# Altium footprint library SC_SOIC28W.PcbLib: 1 footprints
Each footprint in its own frame and in the unit in brackets; x right, y up, seen from the top. Pads: shape width x height; smd on the part's side, far side on the other; paste and mask are expansions set on the pad; w line width, h text height; cw(c..) or ccw(c..) is an arc to the next point about the centre after c.
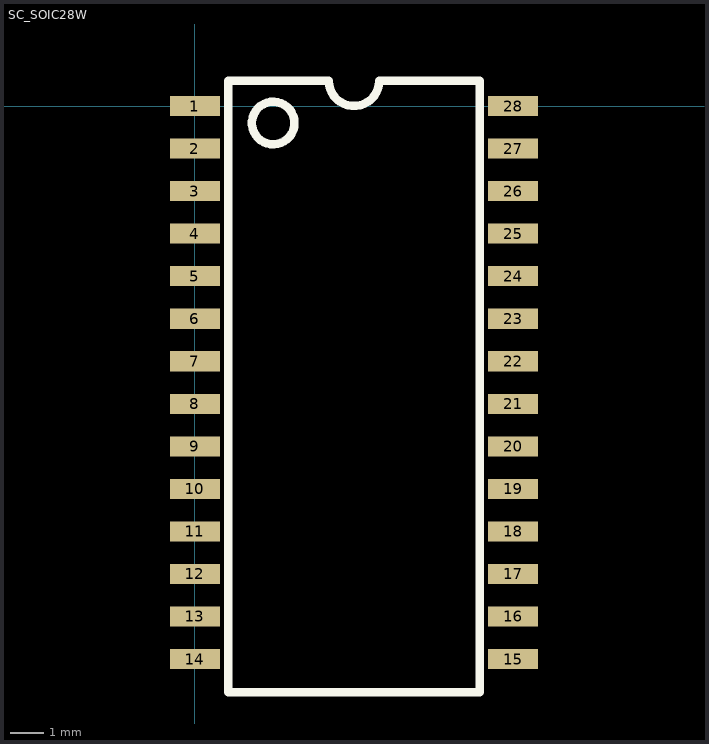
[diagram p0: the footprint, top view; thin cyan lines are the x and y axes]

## SC_SOIC28W [mm] "SC_SOIC28W"
pads (28):
  rect 1.5x0.6 smd: 1(0,0) 2(0,-1.27) 3(0,-2.54) 4(0,-3.81) 5(0,-5.08) 6(0,-6.35) 7(0,-7.62) 8(0,-8.89) 9(0,-10.16) 10(0,-11.43) 11(0,-12.7) 12(0,-13.97) 13(0,-15.24) 14(0,-16.51) 15(9.5,-16.51) 16(9.5,-15.24) 17(9.5,-13.97) 18(9.5,-12.7) 19(9.5,-11.43) 20(9.5,-10.16) 21(9.5,-8.89) 22(9.5,-7.62) 23(9.5,-6.35) 24(9.5,-5.08) 25(9.5,-3.81) 26(9.5,-2.54) 27(9.5,-1.27) 28(9.5,0)
Top Overlay:
  circle w0.254: c2.337,-0.508 r0.635
  lines w0.254: 1,-17.5 8.5,-17.5 8.5,0.75 5.5,0.75 cw(c4.75,0.75) 4,0.75 1,0.75 1,-17.5
3D body: height 2.39, standoff -0.25, extent -0.635,-17.28 10.035,0.8